# Altium schematic symbol library LTC4365HTS8#PBF.SchLib: 1 symbol
Pins are listed as number, name and electrical type; pins without a type are passive.

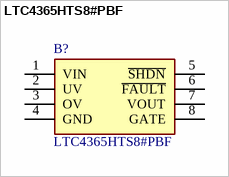
[diagram p0: symbol LTC4365HTS8#PBF]

## LTC4365HTS8#PBF
designator B?
IC OVERVOLTAGE PROTECT; Manufacturer_Name: Analog Devices; Geometry.Height: 1mm; Manufacturer_Part_Number: LTC4365HTS8#PBF; Mouser Part Number: *; Mouser Price/Stock: *; Arrow Part Number: *; Arrow Price/Stock: *; Datasheet Link: http://www.linear.com/docs/29832
footprint SOT65P280X100-8N
pins: 1 VIN, 2 UV, 3 OV, 4 GND, 5 ~{SHDN}, 6 ~{FAULT}, 7 VOUT, 8 GATE